# Altium schematic symbol library processor_amlogic.SchLib: 1 symbol
Pins are listed as number, name and electrical type; pins without a type are passive.

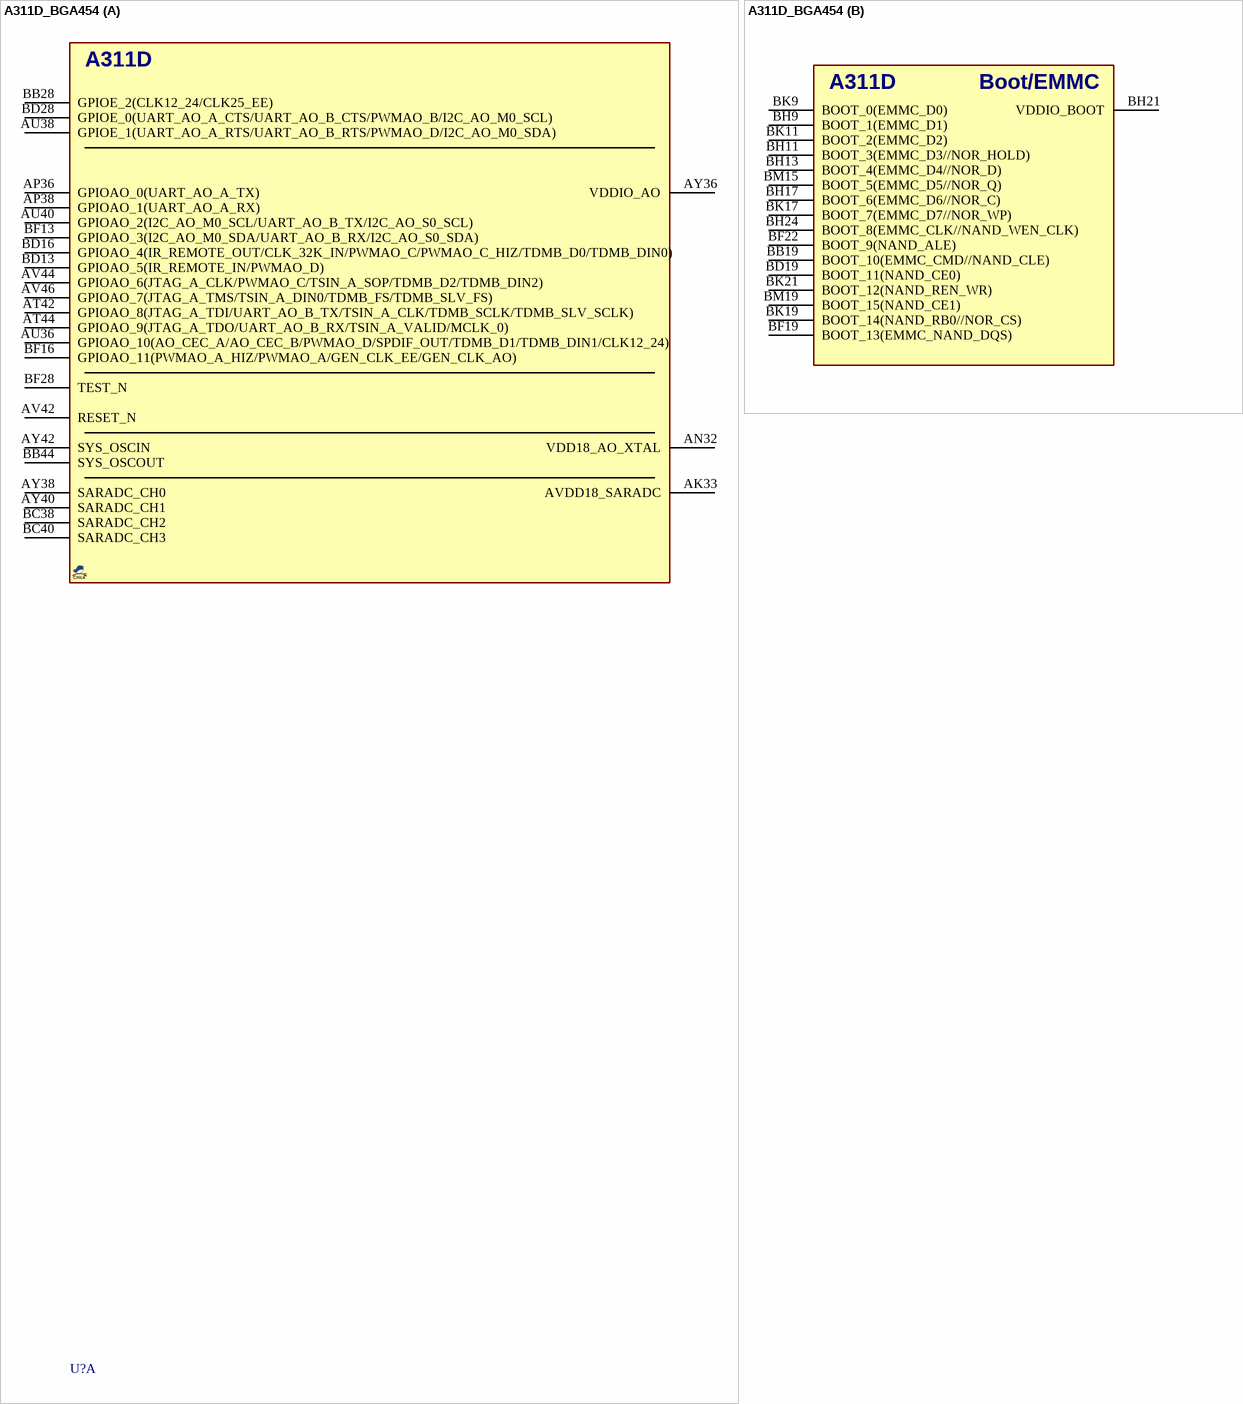
[diagram p0: symbol A311D_BGA454]

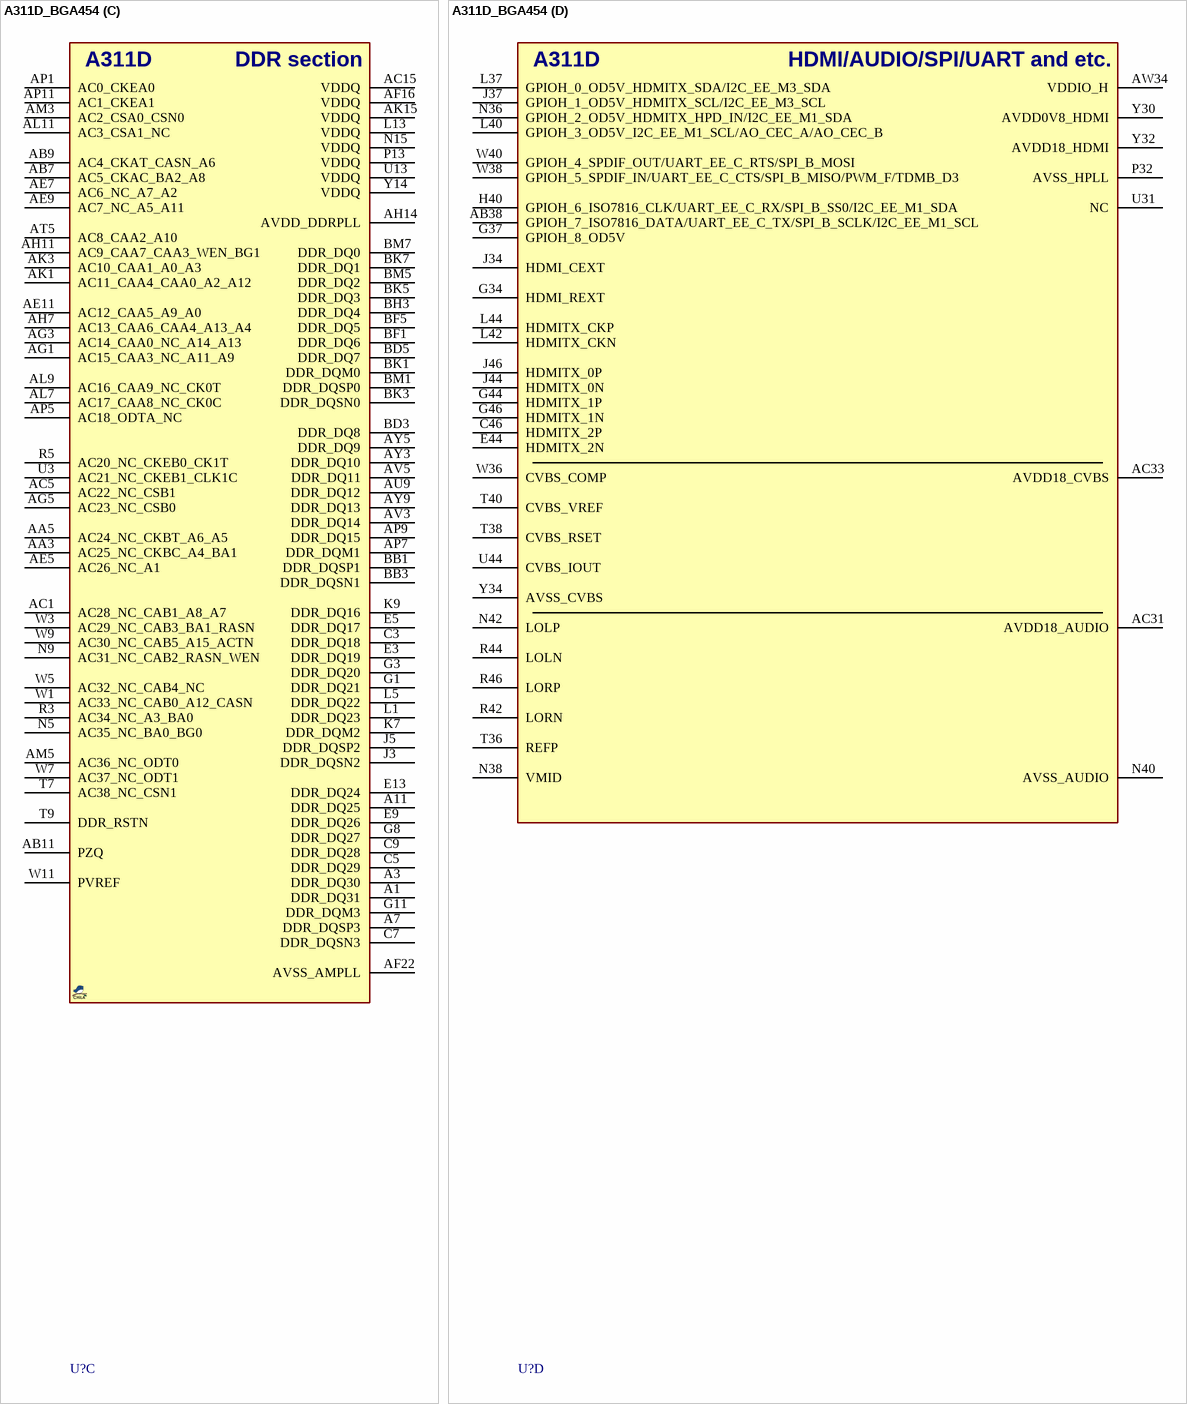
[diagram p1: symbol A311D_BGA454]

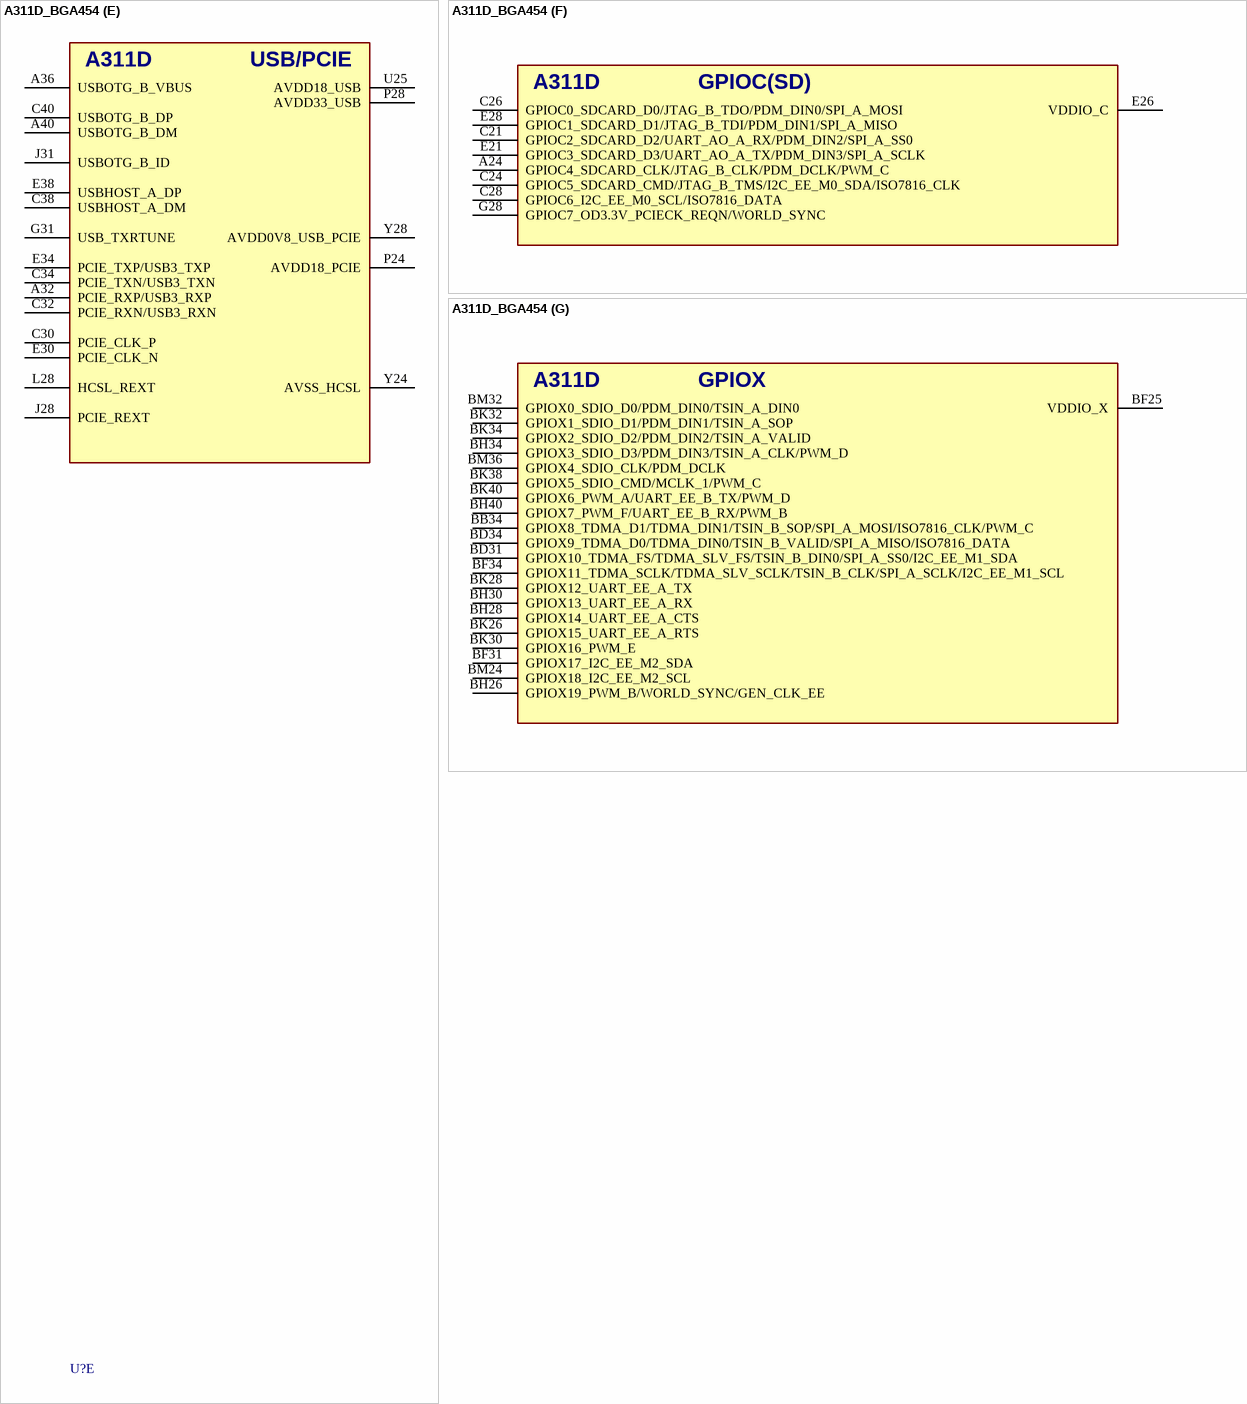
[diagram p2: symbol A311D_BGA454]

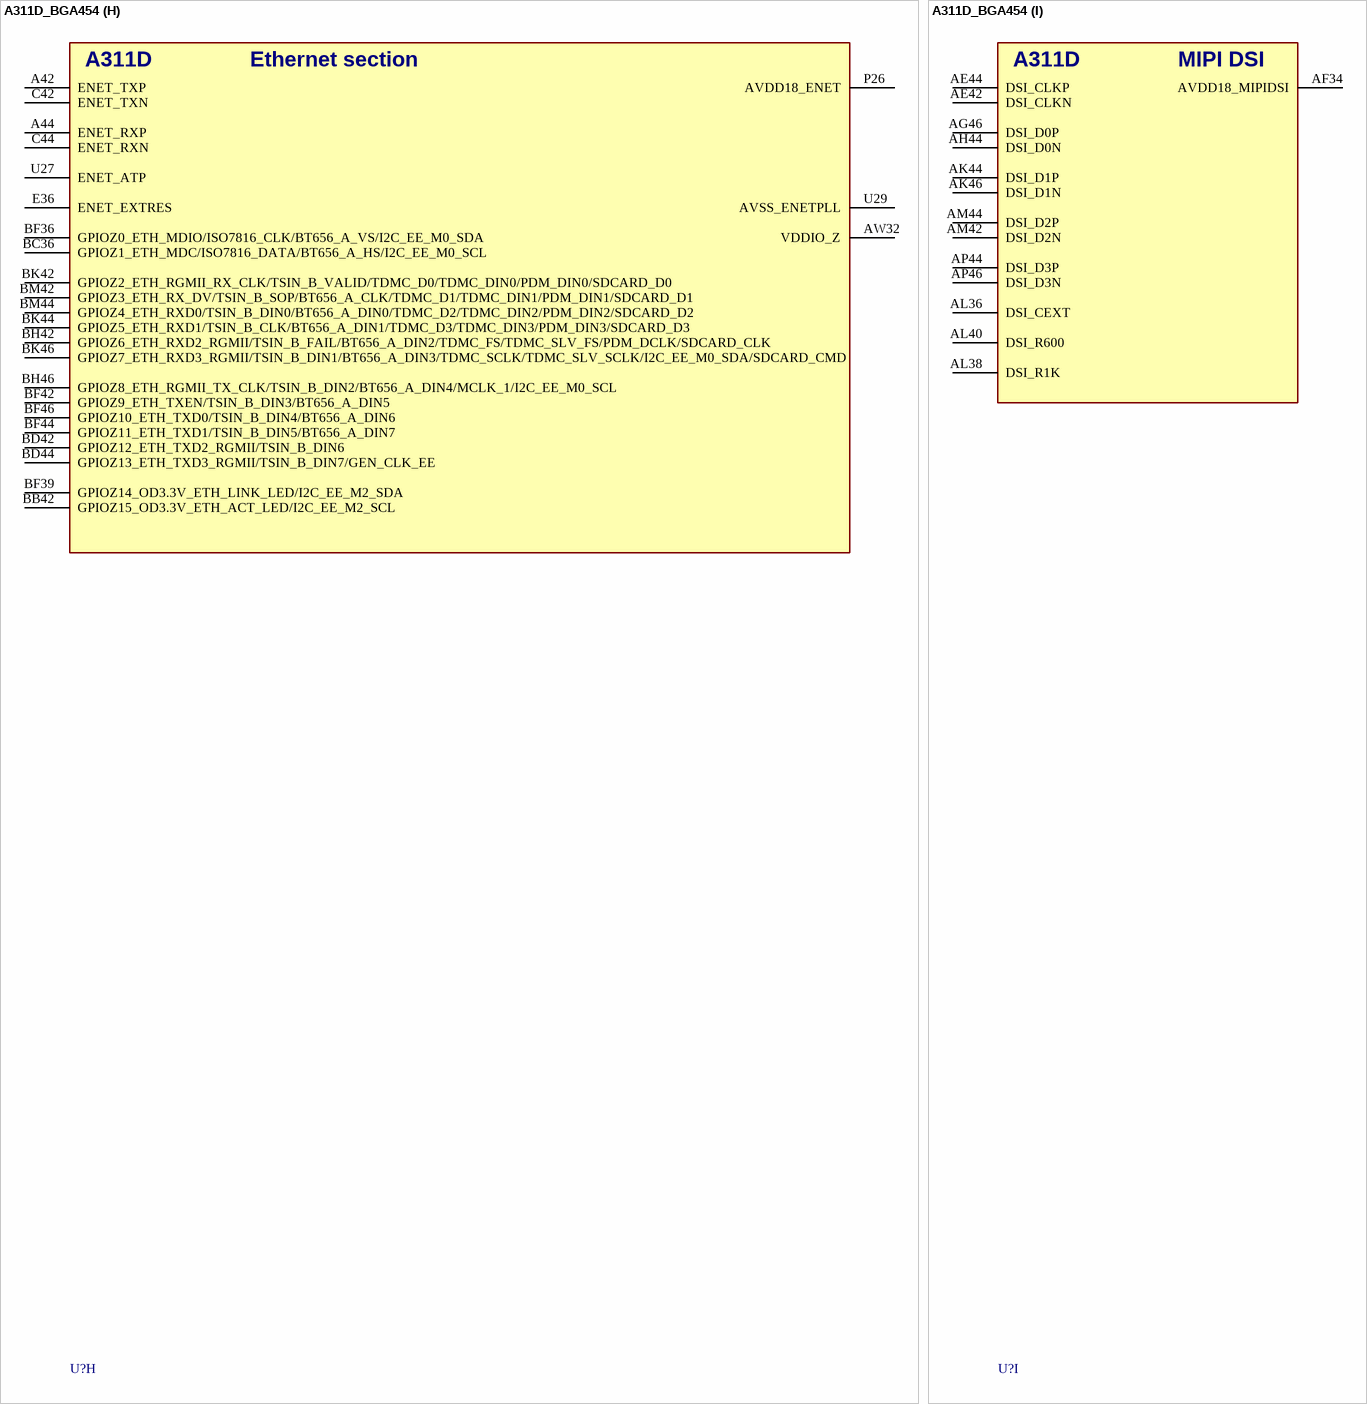
[diagram p3: symbol A311D_BGA454]

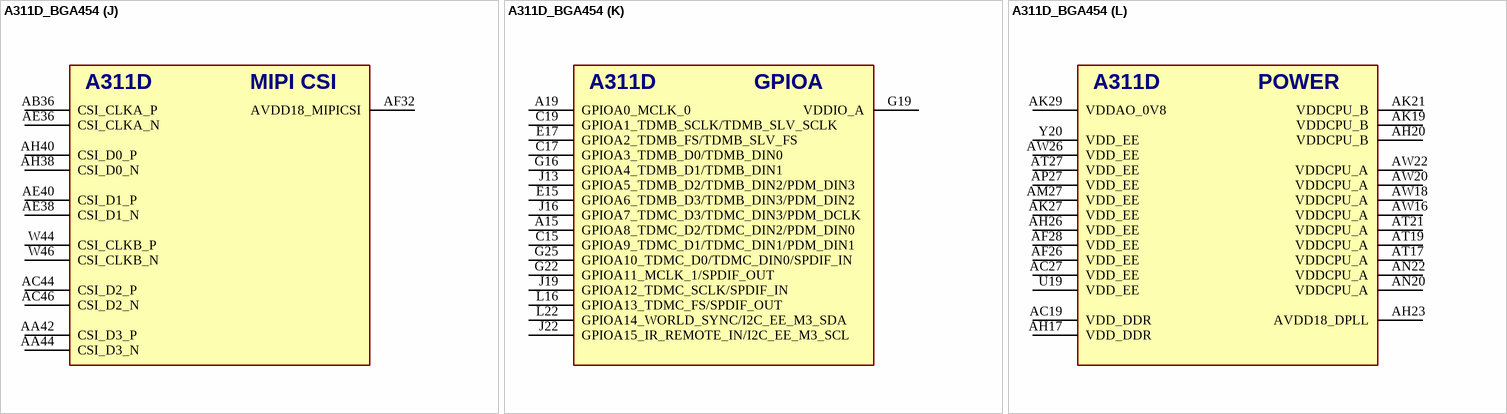
[diagram p4: symbol A311D_BGA454]

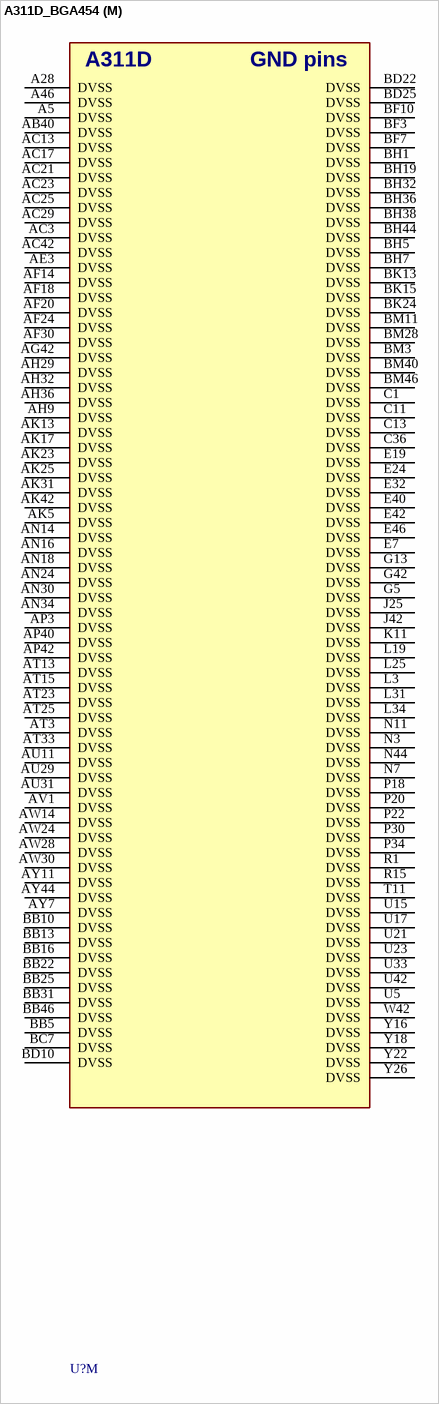
[diagram p5: symbol A311D_BGA454]

## A311D_BGA454
designator U?, comment A311D  (value not drawn)
Processor, 4x Cortex-A73 + 2 x Cortex-A53; MANF: Amlogic; MANF_P#: A311D; PARAM: 4x Cortex-A73 + 2 x Cortex-A53; PRICE: 20$; VALUE: A311D
footprint BGA60_454_16X14 (FCBGA, 52x46 ball matrix, 14.3x16.1mm, 0.6mm pitch staggered)
part A pins: AK33 AVDD18_SARADC, AN32 VDD18_AO_XTAL, AP36 GPIOAO_0(UART_AO_A_TX), AP38 GPIOAO_1(UART_AO_A_RX), AT42 GPIOAO_8(JTAG_A_TDI/UART_AO_B_TX/TSIN_A_CLK/TDMB_SCLK/TDMB_SLV_SCLK), AT44 GPIOAO_9(JTAG_A_TDO/UART_AO_B_RX/TSIN_A_VALID/MCLK_0), AU36 GPIOAO_10(AO_CEC_A/AO_CEC_B/PWMAO_D/SPDIF_OUT/TDMB_D1/TDMB_DIN1/CLK12_24), AU38 GPIOE_1(UART_AO_A_RTS/UART_AO_B_RTS/PWMAO_D/I2C_AO_M0_SDA), AU40 GPIOAO_2(I2C_AO_M0_SCL/UART_AO_B_TX/I2C_AO_S0_SCL), AV42 RESET_N, AV44 GPIOAO_6(JTAG_A_CLK/PWMAO_C/TSIN_A_SOP/TDMB_D2/TDMB_DIN2), AV46 GPIOAO_7(JTAG_A_TMS/TSIN_A_DIN0/TDMB_FS/TDMB_SLV_FS), AY36 VDDIO_AO, AY38 SARADC_CH0, AY40 SARADC_CH1, AY42 SYS_OSCIN, BB28 GPIOE_2(CLK12_24/CLK25_EE), BB44 SYS_OSCOUT, BC38 SARADC_CH2, BC40 SARADC_CH3, BD13 GPIOAO_5(IR_REMOTE_IN/PWMAO_D), BD16 GPIOAO_4(IR_REMOTE_OUT/CLK_32K_IN/PWMAO_C/PWMAO_C_HIZ/TDMB_D0/TDMB_DIN0), BD28 GPIOE_0(UART_AO_A_CTS/UART_AO_B_CTS/PWMAO_B/I2C_AO_M0_SCL), BF13 GPIOAO_3(I2C_AO_M0_SDA/UART_AO_B_RX/I2C_AO_S0_SDA), BF16 GPIOAO_11(PWMAO_A_HIZ/PWMAO_A/GEN_CLK_EE/GEN_CLK_AO), BF28 TEST_N
part B pins: BB19 BOOT_10(EMMC_CMD//NAND_CLE), BD19 BOOT_11(NAND_CE0), BF19 BOOT_13(EMMC_NAND_DQS), BF22 BOOT_9(NAND_ALE), BH9 BOOT_1(EMMC_D1), BH11 BOOT_3(EMMC_D3//NOR_HOLD), BH13 BOOT_4(EMMC_D4//NOR_D), BH17 BOOT_6(EMMC_D6//NOR_C), BH21 VDDIO_BOOT, BH24 BOOT_8(EMMC_CLK//NAND_WEN_CLK), BK9 BOOT_0(EMMC_D0), BK11 BOOT_2(EMMC_D2), BK17 BOOT_7(EMMC_D7//NOR_WP), BK19 BOOT_14(NAND_RB0//NOR_CS), BK21 BOOT_12(NAND_REN_WR), BM15 BOOT_5(EMMC_D5//NOR_Q), BM19 BOOT_15(NAND_CE1)
part C pins: A1 DDR_DQ31, A3 DDR_DQ30, A7 DDR_DQSP3, A11 DDR_DQ25, AA3 AC25_NC_CKBC_A4_BA1, AA5 AC24_NC_CKBT_A6_A5, AB7 AC5_CKAC_BA2_A8, AB9 AC4_CKAT_CASN_A6, AB11 PZQ, AC1 AC28_NC_CAB1_A8_A7, AC5 AC22_NC_CSB1, AC15 VDDQ, AE5 AC26_NC_A1, AE7 AC6_NC_A7_A2, AE9 AC7_NC_A5_A11, AE11 AC12_CAA5_A9_A0, AF16 VDDQ, AF22 AVSS_AMPLL, AG1 AC15_CAA3_NC_A11_A9, AG3 AC14_CAA0_NC_A14_A13, AG5 AC23_NC_CSB0, AH7 AC13_CAA6_CAA4_A13_A4, AH11 AC9_CAA7_CAA3_WEN_BG1, AH14 AVDD_DDRPLL, AK1 AC11_CAA4_CAA0_A2_A12, AK3 AC10_CAA1_A0_A3, AK15 VDDQ, AL7 AC17_CAA8_NC_CK0C, AL9 AC16_CAA9_NC_CK0T, AL11 AC3_CSA1_NC, AM3 AC2_CSA0_CSN0, AM5 AC36_NC_ODT0, AP1 AC0_CKEA0, AP5 AC18_ODTA_NC, AP7 DDR_DQM1, AP9 DDR_DQ15, AP11 AC1_CKEA1, AT5 AC8_CAA2_A10, AU9 DDR_DQ12, AV3 DDR_DQ14, AV5 DDR_DQ11, AY3 DDR_DQ10, AY5 DDR_DQ9, AY9 DDR_DQ13, BB1 DDR_DQSP1, BB3 DDR_DQSN1, BD3 DDR_DQ8, BD5 DDR_DQ7, BF1 DDR_DQ6, BF5 DDR_DQ5, BH3 DDR_DQ4, BK1 DDR_DQM0, BK3 DDR_DQSN0, BK5 DDR_DQ3, BK7 DDR_DQ1, BM1 DDR_DQSP0, BM5 DDR_DQ2, BM7 DDR_DQ0, C3 DDR_DQ18, C5 DDR_DQ29, C7 DDR_DQSN3, C9 DDR_DQ28, E3 DDR_DQ19, E5 DDR_DQ17, E9 DDR_DQ26, E13 DDR_DQ24, G1 DDR_DQ21, G3 DDR_DQ20, G8 DDR_DQ27, G11 DDR_DQM3, J3 DDR_DQSN2, J5 DDR_DQSP2, K7 DDR_DQM2, K9 DDR_DQ16, L1 DDR_DQ23, L5 DDR_DQ22, L13 VDDQ, N5 AC35_NC_BA0_BG0, N9 AC31_NC_CAB2_RASN_WEN, N15 VDDQ, P13 VDDQ, R3 AC34_NC_A3_BA0, R5 AC20_NC_CKEB0_CK1T, T7 AC38_NC_CSN1, T9 DDR_RSTN, U3 AC21_NC_CKEB1_CLK1C, U13 VDDQ, W1 AC33_NC_CAB0_A12_CASN, W3 AC29_NC_CAB3_BA1_RASN, W5 AC32_NC_CAB4_NC, W7 AC37_NC_ODT1, W9 AC30_NC_CAB5_A15_ACTN, W11 PVREF, Y14 VDDQ
part D pins: AB38 GPIOH_7_ISO7816_DATA/UART_EE_C_TX/SPI_B_SCLK/I2C_EE_M1_SCL, AC31 AVDD18_AUDIO, AC33 AVDD18_CVBS, AW34 VDDIO_H, C46 HDMITX_2P, E44 HDMITX_2N, G34 HDMI_REXT, G37 GPIOH_8_OD5V, G44 HDMITX_1P, G46 HDMITX_1N, H40 GPIOH_6_ISO7816_CLK/UART_EE_C_RX/SPI_B_SS0/I2C_EE_M1_SDA, J34 HDMI_CEXT, J37 GPIOH_1_OD5V_HDMITX_SCL/I2C_EE_M3_SCL, J44 HDMITX_0N, J46 HDMITX_0P, L37 GPIOH_0_OD5V_HDMITX_SDA/I2C_EE_M3_SDA, L40 GPIOH_3_OD5V_I2C_EE_M1_SCL/AO_CEC_A/AO_CEC_B, L42 HDMITX_CKN, L44 HDMITX_CKP, N36 GPIOH_2_OD5V_HDMITX_HPD_IN/I2C_EE_M1_SDA, N38 VMID, N40 AVSS_AUDIO, N42 LOLP, P32 AVSS_HPLL, R42 LORN, R44 LOLN, R46 LORP, T36 REFP, T38 CVBS_RSET, T40 CVBS_VREF, U31 NC, U44 CVBS_IOUT, W36 CVBS_COMP, W38 GPIOH_5_SPDIF_IN/UART_EE_C_CTS/SPI_B_MISO/PWM_F/TDMB_D3, W40 GPIOH_4_SPDIF_OUT/UART_EE_C_RTS/SPI_B_MOSI, Y30 AVDD0V8_HDMI, Y32 AVDD18_HDMI, Y34 AVSS_CVBS
part E pins: A32 PCIE_RXP/USB3_RXP, A36 USBOTG_B_VBUS, A40 USBOTG_B_DM, C30 PCIE_CLK_P, C32 PCIE_RXN/USB3_RXN, C34 PCIE_TXN/USB3_TXN, C38 USBHOST_A_DM, C40 USBOTG_B_DP, E30 PCIE_CLK_N, E34 PCIE_TXP/USB3_TXP, E38 USBHOST_A_DP, G31 USB_TXRTUNE, J28 PCIE_REXT, J31 USBOTG_B_ID, L28 HCSL_REXT, P24 AVDD18_PCIE, P28 AVDD33_USB, U25 AVDD18_USB, Y24 AVSS_HCSL, Y28 AVDD0V8_USB_PCIE
part F pins: A24 GPIOC4_SDCARD_CLK/JTAG_B_CLK/PDM_DCLK/PWM_C, C21 GPIOC2_SDCARD_D2/UART_AO_A_RX/PDM_DIN2/SPI_A_SS0, C24 GPIOC5_SDCARD_CMD/JTAG_B_TMS/I2C_EE_M0_SDA/ISO7816_CLK, C26 GPIOC0_SDCARD_D0/JTAG_B_TDO/PDM_DIN0/SPI_A_MOSI, C28 GPIOC6_I2C_EE_M0_SCL/ISO7816_DATA, E21 GPIOC3_SDCARD_D3/UART_AO_A_TX/PDM_DIN3/SPI_A_SCLK, E26 VDDIO_C, E28 GPIOC1_SDCARD_D1/JTAG_B_TDI/PDM_DIN1/SPI_A_MISO, G28 GPIOC7_OD3.3V_PCIECK_REQN/WORLD_SYNC
part G pins: BB34 GPIOX8_TDMA_D1/TDMA_DIN1/TSIN_B_SOP/SPI_A_MOSI/ISO7816_CLK/PWM_C, BD31 GPIOX10_TDMA_FS/TDMA_SLV_FS/TSIN_B_DIN0/SPI_A_SS0/I2C_EE_M1_SDA, BD34 GPIOX9_TDMA_D0/TDMA_DIN0/TSIN_B_VALID/SPI_A_MISO/ISO7816_DATA, BF25 VDDIO_X, BF31 GPIOX17_I2C_EE_M2_SDA, BF34 GPIOX11_TDMA_SCLK/TDMA_SLV_SCLK/TSIN_B_CLK/SPI_A_SCLK/I2C_EE_M1_SCL, BH26 GPIOX19_PWM_B/WORLD_SYNC/GEN_CLK_EE, BH28 GPIOX14_UART_EE_A_CTS, BH30 GPIOX13_UART_EE_A_RX, BH34 GPIOX3_SDIO_D3/PDM_DIN3/TSIN_A_CLK/PWM_D, BH40 GPIOX7_PWM_F/UART_EE_B_RX/PWM_B, BK26 GPIOX15_UART_EE_A_RTS, BK28 GPIOX12_UART_EE_A_TX, BK30 GPIOX16_PWM_E, BK32 GPIOX1_SDIO_D1/PDM_DIN1/TSIN_A_SOP, BK34 GPIOX2_SDIO_D2/PDM_DIN2/TSIN_A_VALID, BK38 GPIOX5_SDIO_CMD/MCLK_1/PWM_C, BK40 GPIOX6_PWM_A/UART_EE_B_TX/PWM_D, BM24 GPIOX18_I2C_EE_M2_SCL, BM32 GPIOX0_SDIO_D0/PDM_DIN0/TSIN_A_DIN0, BM36 GPIOX4_SDIO_CLK/PDM_DCLK
part H pins: A42 ENET_TXP, A44 ENET_RXP, AW32 VDDIO_Z, BB42 GPIOZ15_OD3.3V_ETH_ACT_LED/I2C_EE_M2_SCL, BC36 GPIOZ1_ETH_MDC/ISO7816_DATA/BT656_A_HS/I2C_EE_M0_SCL, BD42 GPIOZ12_ETH_TXD2_RGMII/TSIN_B_DIN6, BD44 GPIOZ13_ETH_TXD3_RGMII/TSIN_B_DIN7/GEN_CLK_EE, BF36 GPIOZ0_ETH_MDIO/ISO7816_CLK/BT656_A_VS/I2C_EE_M0_SDA, BF39 GPIOZ14_OD3.3V_ETH_LINK_LED/I2C_EE_M2_SDA, BF42 GPIOZ9_ETH_TXEN/TSIN_B_DIN3/BT656_A_DIN5, BF44 GPIOZ11_ETH_TXD1/TSIN_B_DIN5/BT656_A_DIN7, BF46 GPIOZ10_ETH_TXD0/TSIN_B_DIN4/BT656_A_DIN6, BH42 GPIOZ6_ETH_RXD2_RGMII/TSIN_B_FAIL/BT656_A_DIN2/TDMC_FS/TDMC_SLV_FS/PDM_DCLK/SDCARD_CLK, BH46 GPIOZ8_ETH_RGMII_TX_CLK/TSIN_B_DIN2/BT656_A_DIN4/MCLK_1/I2C_EE_M0_SCL, BK42 GPIOZ2_ETH_RGMII_RX_CLK/TSIN_B_VALID/TDMC_D0/TDMC_DIN0/PDM_DIN0/SDCARD_D0, BK44 GPIOZ5_ETH_RXD1/TSIN_B_CLK/BT656_A_DIN1/TDMC_D3/TDMC_DIN3/PDM_DIN3/SDCARD_D3, BK46 GPIOZ7_ETH_RXD3_RGMII/TSIN_B_DIN1/BT656_A_DIN3/TDMC_SCLK/TDMC_SLV_SCLK/I2C_EE_M0_SDA/SDCARD_CMD, BM42 GPIOZ3_ETH_RX_DV/TSIN_B_SOP/BT656_A_CLK/TDMC_D1/TDMC_DIN1/PDM_DIN1/SDCARD_D1, BM44 GPIOZ4_ETH_RXD0/TSIN_B_DIN0/BT656_A_DIN0/TDMC_D2/TDMC_DIN2/PDM_DIN2/SDCARD_D2, C42 ENET_TXN, C44 ENET_RXN, E36 ENET_EXTRES, P26 AVDD18_ENET, U27 ENET_ATP, U29 AVSS_ENETPLL
part I pins: AE42 DSI_CLKN, AE44 DSI_CLKP, AF34 AVDD18_MIPIDSI, AG46 DSI_D0P, AH44 DSI_D0N, AK44 DSI_D1P, AK46 DSI_D1N, AL36 DSI_CEXT, AL38 DSI_R1K, AL40 DSI_R600, AM42 DSI_D2N, AM44 DSI_D2P, AP44 DSI_D3P, AP46 DSI_D3N
part J pins: AA42 CSI_D3_P, AA44 CSI_D3_N, AB36 CSI_CLKA_P, AC44 CSI_D2_P, AC46 CSI_D2_N, AE36 CSI_CLKA_N, AE38 CSI_D1_N, AE40 CSI_D1_P, AF32 AVDD18_MIPICSI, AH38 CSI_D0_N, AH40 CSI_D0_P, W44 CSI_CLKB_P, W46 CSI_CLKB_N
part K pins: A15 GPIOA8_TDMC_D2/TDMC_DIN2/PDM_DIN0, A19 GPIOA0_MCLK_0, C15 GPIOA9_TDMC_D1/TDMC_DIN1/PDM_DIN1, C17 GPIOA3_TDMB_D0/TDMB_DIN0, C19 GPIOA1_TDMB_SCLK/TDMB_SLV_SCLK, E15 GPIOA6_TDMB_D3/TDMB_DIN3/PDM_DIN2, E17 GPIOA2_TDMB_FS/TDMB_SLV_FS, G16 GPIOA4_TDMB_D1/TDMB_DIN1, G19 VDDIO_A, G22 GPIOA11_MCLK_1/SPDIF_OUT, G25 GPIOA10_TDMC_D0/TDMC_DIN0/SPDIF_IN, J13 GPIOA5_TDMB_D2/TDMB_DIN2/PDM_DIN3, J16 GPIOA7_TDMC_D3/TDMC_DIN3/PDM_DCLK, J19 GPIOA12_TDMC_SCLK/SPDIF_IN, J22 GPIOA15_IR_REMOTE_IN/I2C_EE_M3_SCL, L16 GPIOA13_TDMC_FS/SPDIF_OUT, L22 GPIOA14_WORLD_SYNC/I2C_EE_M3_SDA
part L pins: AC19 VDD_DDR, AC27 VDD_EE, AF26 VDD_EE, AF28 VDD_EE, AH17 VDD_DDR, AH20 VDDCPU_B, AH23 AVDD18_DPLL, AH26 VDD_EE, AK19 VDDCPU_B, AK21 VDDCPU_B, AK27 VDD_EE, AK29 VDDAO_0V8, AM27 VDD_EE, AN20 VDDCPU_A, AN22 VDDCPU_A, AP27 VDD_EE, AT17 VDDCPU_A, AT19 VDDCPU_A, AT21 VDDCPU_A, AT27 VDD_EE, AW16 VDDCPU_A, AW18 VDDCPU_A, AW20 VDDCPU_A, AW22 VDDCPU_A, AW26 VDD_EE, U19 VDD_EE, Y20 VDD_EE
part M pins: A5 DVSS, A28 DVSS, A46 DVSS, AB40 DVSS, AC3 DVSS, AC13 DVSS, AC17 DVSS, AC21 DVSS, AC23 DVSS, AC25 DVSS, AC29 DVSS, AC42 DVSS, AE3 DVSS, AF14 DVSS, AF18 DVSS, AF20 DVSS, AF24 DVSS, AF30 DVSS, AG42 DVSS, AH9 DVSS, AH29 DVSS, AH32 DVSS, AH36 DVSS, AK5 DVSS, AK13 DVSS, AK17 DVSS, AK23 DVSS, AK25 DVSS, AK31 DVSS, AK42 DVSS, AN14 DVSS, AN16 DVSS, AN18 DVSS, AN24 DVSS, AN30 DVSS, AN34 DVSS, AP3 DVSS, AP40 DVSS, AP42 DVSS, AT3 DVSS, AT13 DVSS, AT15 DVSS, AT23 DVSS, AT25 DVSS, AT33 DVSS, AU11 DVSS, AU29 DVSS, AU31 DVSS, AV1 DVSS, AW14 DVSS, AW24 DVSS, AW28 DVSS, AW30 DVSS, AY7 DVSS, AY11 DVSS, AY44 DVSS, BB5 DVSS, BB10 DVSS, BB13 DVSS, BB16 DVSS, BB22 DVSS, BB25 DVSS, BB31 DVSS, BB46 DVSS, BC7 DVSS, BD10 DVSS, BD22 DVSS, BD25 DVSS, BF3 DVSS, BF7 DVSS, BF10 DVSS, BH1 DVSS, BH5 DVSS, BH7 DVSS, BH19 DVSS, BH32 DVSS, BH36 DVSS, BH38 DVSS, BH44 DVSS, BK13 DVSS, BK15 DVSS, BK24 DVSS, BM3 DVSS, BM11 DVSS, BM28 DVSS, BM40 DVSS, BM46 DVSS, C1 DVSS, C11 DVSS, C13 DVSS, C36 DVSS, E7 DVSS, E19 DVSS, E24 DVSS, E32 DVSS, E40 DVSS, E42 DVSS, E46 DVSS, G5 DVSS, G13 DVSS, G42 DVSS, J25 DVSS, J42 DVSS, K11 DVSS, L3 DVSS, L19 DVSS, L25 DVSS, L31 DVSS, L34 DVSS, N3 DVSS, N7 DVSS, N11 DVSS, N44 DVSS, P18 DVSS, P20 DVSS, P22 DVSS, P30 DVSS, P34 DVSS, R1 DVSS, R15 DVSS, T11 DVSS, U5 DVSS, U15 DVSS, U17 DVSS, U21 DVSS, U23 DVSS, U33 DVSS, U42 DVSS, W42 DVSS, Y16 DVSS, Y18 DVSS, Y22 DVSS, Y26 DVSS
part B text: Boot/EMMC
part C text: DDR section
part D text: HDMI/AUDIO/SPI/UART and etc.
part E text: USB/PCIE
part F text: GPIOC(SD)
part G text: GPIOX
part H text: Ethernet section
part I text: MIPI DSI
part J text: MIPI CSI
part K text: GPIOA
part L text: POWER
part M text: GND pins